# Altium schematic symbol library voltage-converters.SchLib: 1 symbol
Pins are listed as number, name and electrical type; pins without a type are passive.

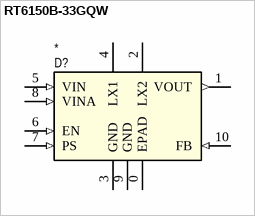
[diagram p0: symbol RT6150B-33GQW]

## RT6150B-33GQW
designator D?
pins: 0 EPAD, 1 VOUT (out), 2 LX2, 3 GND, 4 LX1, 5 VIN (in), 6 EN (in), 7 PS (in), 8 VINA (in), 9 GND, 10 FB (in)